# Altium footprint library SL_Connectors.PcbLib: 25 footprints (part 2 of 2)
Each footprint in its own frame and in the unit in brackets; x right, y up, seen from the top. Pads: shape width x height; smd on the part's side, far side on the other; paste and mask are expansions set on the pad; w line width, h text height; cw(c..) or ccw(c..) is an arc to the next point about the centre after c.
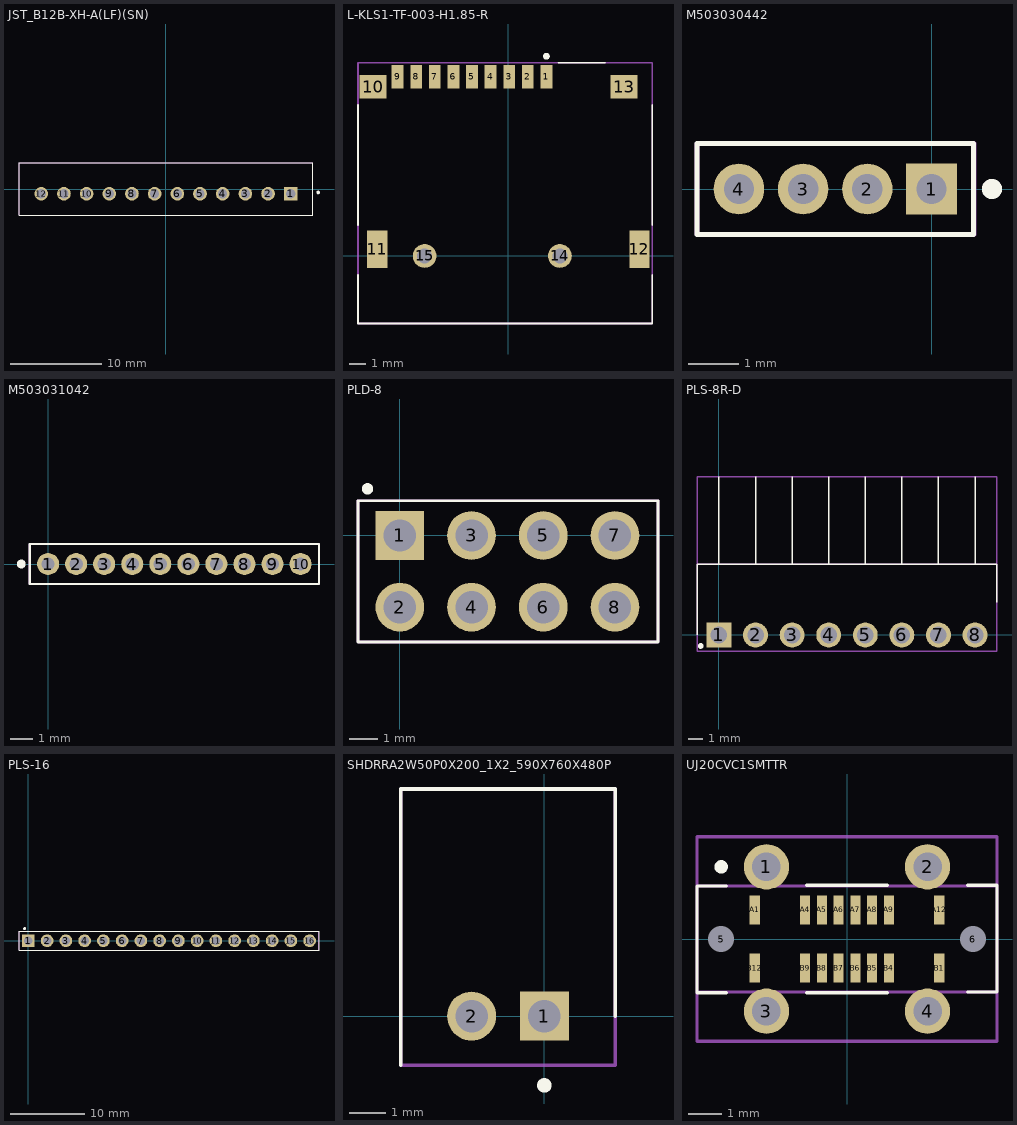
[diagram p1: the footprints below, top view; thin cyan lines are the x and y axes]

## JST_B12B-XH-A(LF)(SN) [mm]
height 7
pads (12):
  rect 1.508x1.508 hole 1: 1(13.75,-0.525)
  round 1.508 hole 1: 2(11.25,-0.525) 3(8.75,-0.525) 4(6.25,-0.525) 5(3.75,-0.525) 6(1.25,-0.525) 7(-1.25,-0.525) 8(-3.75,-0.525) 9(-6.25,-0.525) 10(-8.75,-0.525) 11(-11.25,-0.525) 12(-13.75,-0.525)
Top Overlay:
  circle w0.2: c16.764,-0.381 r0.1
  lines w0.1: -16.2,-2.875 16.2,-2.875 16.2,2.875 -16.2,2.875 -16.2,-2.875
Mechanical 13:
  lines w0.1: -16.2,-2.875 16.2,-2.875 16.2,2.875 -16.2,2.875 -16.2,-2.875
Mechanical 15:
  lines w0.1: -16.2,-2.875 16.2,-2.875 16.2,2.875 -16.2,2.875 -16.2,-2.875
3D body "step_temp.STEP": height 7, standoff -3.4, extent -16.2,-2.875 16.2,2.875

## L-KLS1-TF-003-H1.85-R [mm]
pads (15):
  rect 0.7x1.4 smd: 1(2.25,10.6) 2(1.15,10.6) 3(0.05,10.6) 4(-1.05,10.6) 5(-2.15,10.6) 6(-3.25,10.6) 7(-4.35,10.6) 8(-5.45,10.6) 9(-6.55,10.6)
  rect 1.6x1.4 smd: 10(-8,10) 13(6.85,10)
  rect 1.2x2.2 smd: 11(-7.75,0.4) 12(7.75,0.4)
  round 1.4 hole 0.9: 14(3.05,0) 15(-4.95,0)
Top Overlay:
  circle w0.2: c2.25,11.811 r0.1
  lines w0.1: -8.89,-1.104 -8.89,-3.99 8.509,-3.99 8.509,-1.104 ; -8.89,1.835 -8.89,8.95 ; 2.967,11.43 5.715,11.43 ; 8.509,1.835 8.509,8.95
Mechanical 13:
  lines w0.1: -8.89,-3.99 8.509,-3.99 8.509,11.43 -8.89,11.43 -8.89,-3.99
3D body "L-KLS1-TF-003-H1.85-R.stp": height 1.9, standoff -0.55, extent -8,-3.99 8.1,11.213

## M503030442 [mm]
pads (4):
  rect 1x1 hole 0.6 mask+0.051: 1(0,0)
  round 1 hole 0.6 mask+0.051: 2(-1.27,0) 3(-2.54,0) 4(-3.81,0)
Top Overlay:
  circle w0.2: c1.196,0 r0.1
  lines w0.1: -4.64,-0.9 0.835,-0.9 0.835,0.9 -4.64,0.9 -4.64,-0.9
Mechanical 13:
  lines w0.1: -4.64,-0.9 0.835,-0.9 0.835,0.9 -4.64,0.9 -4.64,-0.9
Mechanical 15:
  lines w0.1: -4.64,-0.9 0.84,-0.9 0.84,0.9 -4.64,0.9 -4.64,-0.9
3D body "M50-3030442.stp": height 4.41, standoff -2.39, extent -4.64,-0.9 0.84,0.9

## M503031042 [mm]
pads (10):
  round 1 hole 0.6 mask+0.051: 1(0,0) 2(1.27,0) 3(2.54,0) 4(3.81,0) 5(5.08,0) 6(6.35,0) 7(7.62,0) 8(8.89,0) 9(10.16,0) 10(11.43,0)
Top Overlay:
  circle w0.2: c-1.217,0 r0.1
  lines w0.1: -0.835,-0.9 12.265,-0.9 12.265,0.9 -0.835,0.9 -0.835,-0.9
Mechanical 13:
  lines w0.1: -0.835,-0.9 12.265,-0.9 12.265,0.9 -0.835,0.9 -0.835,-0.9
Mechanical 15:
  lines w0.1: -0.835,-0.9 12.265,-0.9 12.265,0.9 -0.835,0.9 -0.835,-0.9
3D body "M50-3031042.stp": height 4.32, standoff -2.48, extent -0.88,-0.9 12.22,0.9

## PLD-8 [mm]
pads (8):
  rect 1.725x1.725 hole 1.15: 1(0,0)
  round 1.725 hole 1.15: 2(0,-2.54) 3(2.54,0) 4(2.54,-2.54) 5(5.08,0) 6(5.08,-2.54) 7(7.62,0) 8(7.62,-2.54)
Top Overlay:
  circle w0.2: c-1.143,1.651 r0.1
  lines w0.1: -1.48,-3.77 9.144,-3.77 9.144,1.23 -1.48,1.23 -1.48,-3.77
Mechanical 13:
  lines w0.1: -1.48,-3.77 -1.48,1.23 9.144,1.23 9.144,-3.77 -1.48,-3.77
Mechanical 15:
  lines w0.1: -1.48,-3.77 9.144,-3.77 9.144,1.23 -1.48,1.23 -1.48,-3.77
3D body "DS1021-2x4.STEP": height 8.3, standoff -2.8, extent -1.48,-3.77 9.08,1.23

## PLS-8R-D [mm]
pads (8):
  rect 1.725x1.725 hole 1.15: 1(0,0)
  round 1.725 hole 1.15: 2(2.54,0) 3(5.08,0) 4(7.62,0) 5(10.16,0) 6(12.7,0) 7(15.24,0) 8(17.78,0)
Top Overlay:
  circle w0.2: c-1.27,-0.762 r0.1
  lines w0.1: -1.52,0 -1.52,4.9 19.3,4.9 19.3,2.26 ; 0,4.9 0,11 ; 2.54,4.9 2.54,11 ; 5.08,4.9 5.08,11 ; 7.62,4.9 7.62,11 ; 10.16,4.9 10.16,11 ; 12.7,4.9 12.7,11 ; 15.24,4.9 15.24,11 ; 17.78,4.9 17.78,11
Mechanical 13:
  lines w0.1: -1.52,4.9 -1.52,11 19.3,11 19.3,4.9 -1.52,4.9
Mechanical 15:
  lines w0.1: -1.524,-1.143 19.304,-1.143 19.304,11 -1.524,11 -1.524,-1.143
3D body "M20-9960845.stp": height 3.64, standoff -2, extent -1.52,-0.33 19.3,11

## PLS-16 [mm]
pads (16):
  rect 1.725x1.725 hole 1.15: 1(0,0)
  round 1.725 hole 1.15: 2(2.54,0) 3(5.08,0) 4(7.62,0) 5(10.16,0) 6(12.7,0) 7(15.24,0) 8(17.78,0) 9(20.32,0) 10(22.86,0) 11(25.4,0) 12(27.94,0) 13(30.48,0) 14(33.02,0) 15(35.56,0) 16(38.1,0)
Top Overlay:
  circle w0.2: c-0.508,1.651 r0.1
  lines w0.1: -1.27,-1.27 39.37,-1.27 39.37,1.27 -1.27,1.27 -1.27,-1.27
Mechanical 13:
  lines w0.1: -1.27,-1.27 -1.27,1.27 39.37,1.27 39.37,-1.27 -1.27,-1.27
Mechanical 15:
  lines w0.1: -1.27,-1.27 39.37,-1.27 39.37,1.27 -1.27,1.27 -1.27,-1.27
3D body "PLS-16.step": height 8.6, standoff -3, extent -1.27,-1.27 39.37,1.27

## SHDRRA2W50P0X200_1X2_590X760X480P [mm]
pads (2):
  rect 1.35x1.35 hole 0.9: 1(0,0)
  round 1.35 hole 0.9: 2(-2,0)
Top Overlay:
  circle w0.2: c0,-1.905 r0.1
  lines w0.1: -3.95,-1.35 -3.95,6.25 1.95,6.25 1.95,0
Mechanical 13:
  lines w0.1: -3.95,-1.35 1.95,-1.35 1.95,6.25 -3.95,6.25 -3.95,-1.35
Mechanical 15:
  lines w0.1: -3.95,-1.35 1.95,-1.35 1.95,6.25 -3.95,6.25 -3.95,-1.35
3D body "S2B-PH-K-S.STEP": height 4.8, standoff -3.38, extent -3.937,-1.387 1.963,6.213

## UJ20CVC1SMTTR [mm]
pads (22):
  round 1.35 hole 0.85 mask+0.02: 1(-2.4,2.15) 2(2.4,2.15) 3(-2.4,-2.15) 4(2.4,-2.15)
  round 0.385 hole 0.77 unplated: 5(-3.75,0) 6(3.75,0)
  rect 0.3x0.87 smd mask+0.02: A1(-2.75,0.865) A4(-1.25,0.865) A5(-0.75,0.865) A6(-0.25,0.865) A7(0.25,0.865) A8(0.75,0.865) A9(1.25,0.865) A12(2.75,0.865) B1(2.75,-0.865) B4(1.25,-0.865) B5(0.75,-0.865) B6(0.25,-0.865) B7(-0.25,-0.865) B8(-0.75,-0.865) B9(-1.25,-0.865) B12(-2.75,-0.865)
Top Overlay:
  circle w0.2: c-3.75,2.15 r0.1
  lines w0.1: -3.6,-1.6 -4.47,-1.6 -4.47,1.58 -3.6,1.58 ; -1.2,-1.6 1.2,-1.6 ; -1.2,1.6 1.2,1.6 ; 3.6,-1.58 4.47,-1.58 4.47,1.6 3.6,1.6
Mechanical 13:
  lines w0.1: -4.47,-1.58 4.47,-1.58 4.47,1.58 -4.47,1.58 -4.47,-1.58
Mechanical 15:
  lines w0.1: -4.47,-3.048 4.47,-3.048 4.47,3.048 -4.47,3.048 -4.47,-3.048
3D body "UJ20-C-V-C-1-SMT-TR.stp": height 6.49, standoff -0.96, extent -4.47,-2.3 4.47,2.3